# Altium schematic symbol library CSD25310Q2T.SchLib: 1 symbol
Pins are listed as number, name and electrical type; pins without a type are passive.

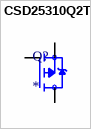
[diagram p0: symbol CSD25310Q2T]

## CSD25310Q2T
designator Q?
-20V, P ch NexFET MOSFET, single SON 2x2, 23.9mOhm 6-WSON -55 to 150; MF: Texas Instruments; MP: CSD25310Q2T; Digi-Key_Part_Number: 296-50290-2-ND; Value: *; Package: WSON-6 Texas Instruments; Purchase-URL: https://pricing.snapeda.com/search/part/CSD25310Q2T/?ref=eda; Check_prices: https://www.snapeda.com/parts/CSD25310Q2T/Texas+Instruments/view-part/?ref=eda; SnapEDA_Link: https://www.snapeda.com/parts/CSD25310Q2T/Texas+Instruments/view-part/?ref=snap
footprint TRANS_CSD25310Q2T
pins: 1 S, 2 S, 3 G, 4 D, 5 S, 6 S, 7 S, 8 D